# Altium footprint library IR Discrete MOSFET - Low Power.PcbLib: 1 footprints
Each footprint in its own frame and in the unit in brackets; x right, y up, seen from the top. Pads: shape width x height; smd on the part's side, far side on the other; paste and mask are expansions set on the pad; w line width, h text height; cw(c..) or ccw(c..) is an arc to the next point about the centre after c.
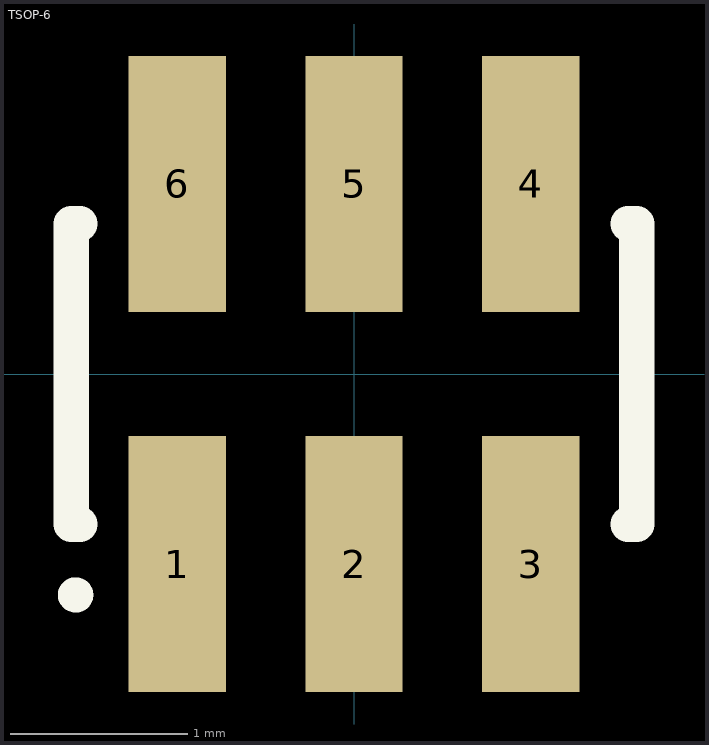
[diagram p0: the footprint, top view; thin cyan lines are the x and y axes]

## TSOP-6 [mm] "SOT-457/SC-74; 6 Leads; Body 3.1 x 2.9 mm, inc. leads (LxW max)"
height 1.1
pads (6):
  rect 0.55x1.45 smd: 1(-1,-1.075) 2(0,-1.075) 3(1,-1.075) 4(1,1.075) 5(0,1.075) 6(-1,1.075)
Top Overlay:
  circle w0.1: c-1.575,-1.25 r0.05
  lines w0.2: -1.55,-0.85 -1.6,-0.85 -1.6,0.85 -1.55,0.85 ; 1.55,-0.85 1.6,-0.85 1.6,0.85 1.55,0.85